# Altium footprint library Package_TO_SOT_THT.PcbLib: 236 footprints (part 7 of 15)
Each footprint in its own frame and in the unit in brackets; x right, y up, seen from the top. Pads: shape width x height; smd on the part's side, far side on the other; paste and mask are expansions set on the pad; w line width, h text height; cw(c..) or ccw(c..) is an arc to the next point about the centre after c.
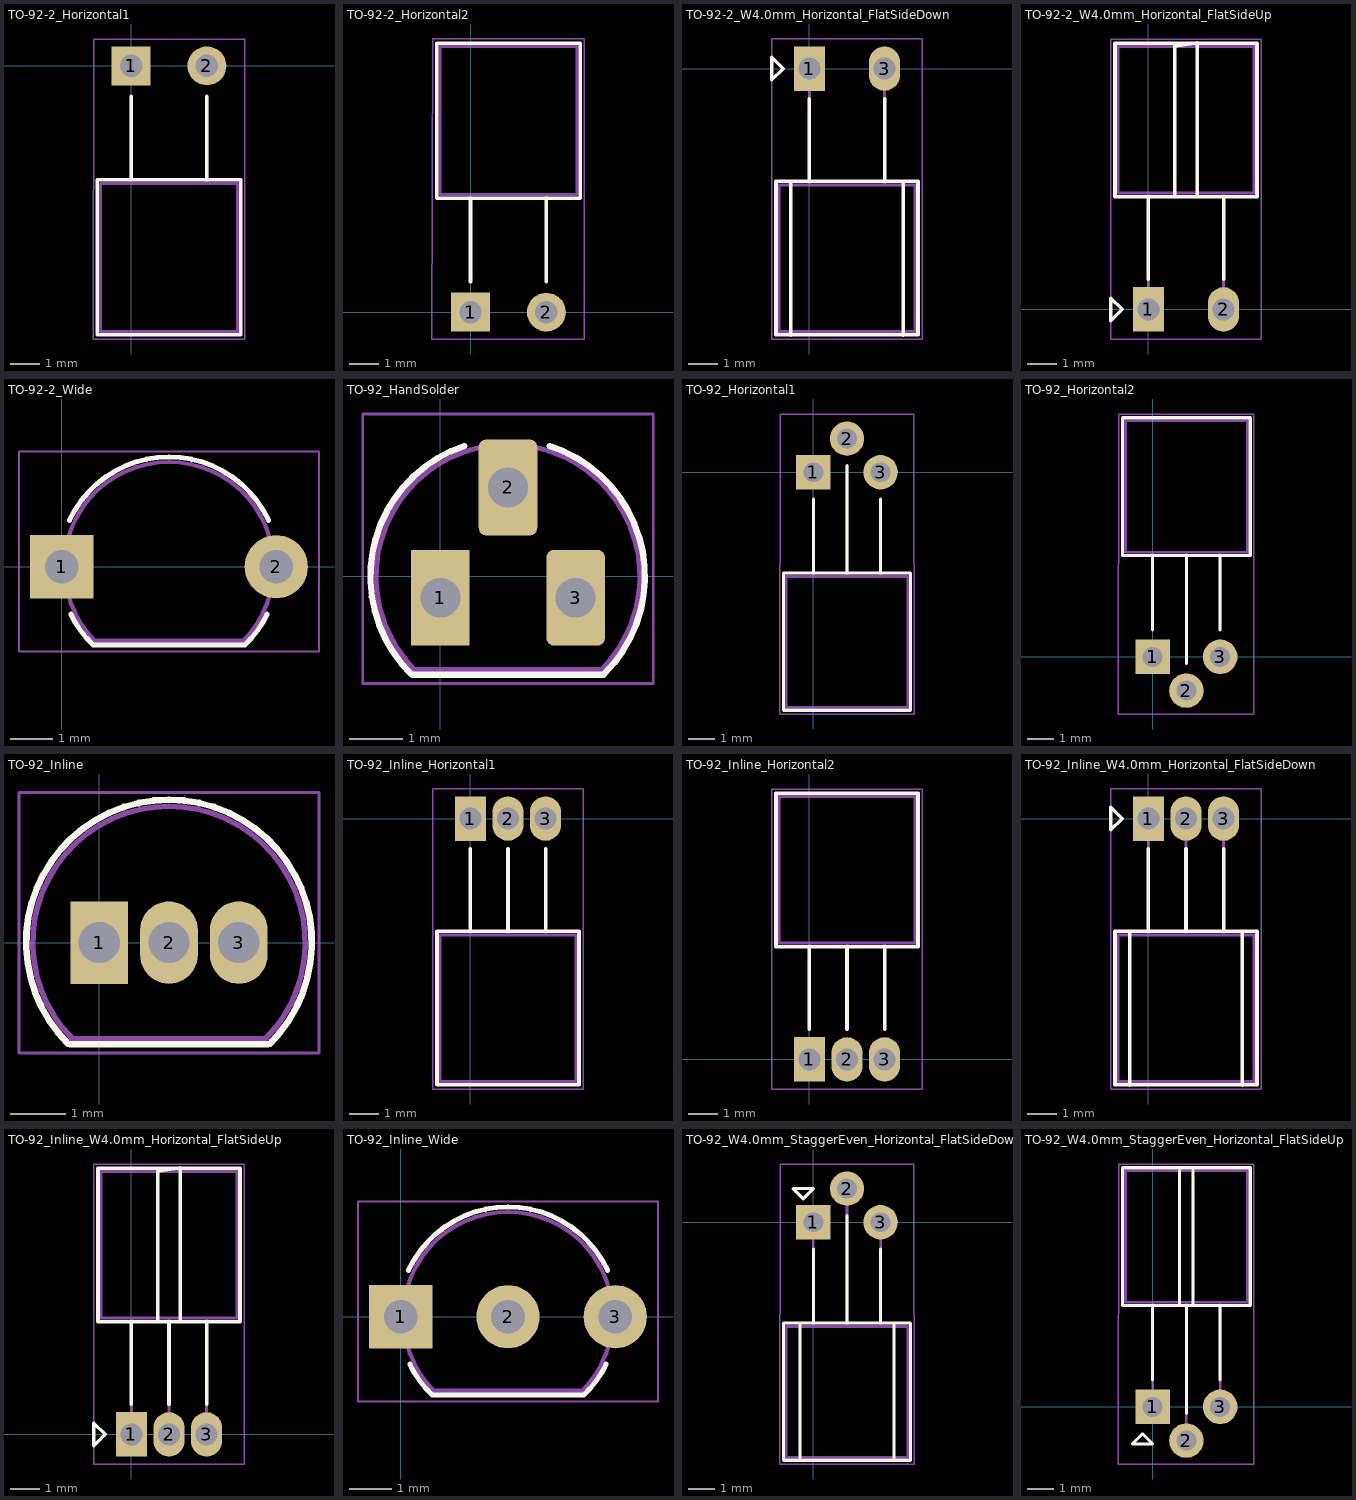
[diagram p6: the footprints below, top view; thin cyan lines are the x and y axes]

## TO-92-2_Horizontal1 [mm]
pads (2):
  rect 1.3x1.3 hole 0.75: 1(0,0)
  round 1.3 hole 0.75: 2(2.54,0)
F.SilkS:
  lines w0.12: 0,-3.81 0,-1.02 ; 2.54,-3.81 2.54,-1.02 ; -1.13,-9 -1.13,-3.81 3.67,-3.81 3.67,-9 -1.13,-9
F.CrtYd:
  lines w0.05: -1.27,-9.14 -1.25,0.9 3.8,0.9 3.81,-9.14 -1.27,-9.14
F.Fab:
  lines w0.1: 0,-3.94 0,-1.02 ; 2.54,-3.94 2.54,-1.02 ; -1.02,-8.89 -1.02,-3.94 3.56,-3.94 3.56,-8.89 -1.02,-8.89
  text "'.Designator'" at -2.777,-7.44 h1

## TO-92-2_Horizontal2 [mm]
pads (2):
  rect 1.3x1.3 hole 0.75: 1(0,0)
  round 1.3 hole 0.75: 2(2.54,0)
F.SilkS:
  lines w0.12: 0,1.02 0,3.81 ; 2.54,1.02 2.54,3.81 ; -1.13,3.81 3.67,3.81 3.67,9 -1.13,9 -1.13,3.81
F.CrtYd:
  lines w0.05: -1.3,-0.9 3.8,-0.9 3.81,9.14 -1.27,9.14 -1.3,-0.9
F.Fab:
  lines w0.1: 0,1.02 0,3.94 ; 2.54,1.02 2.54,3.94 ; -1.02,3.94 3.56,3.94 3.56,8.89 -1.02,8.89 -1.02,3.94
  text "'.Designator'" at -2.777,5.41 h1

## TO-92-2_W4.0mm_Horizontal_FlatSideDown [mm]
pads (2):
  rect 1.05x1.5 hole 0.75: 1(0,0)
  rrect100% 1.05x1.5 hole 0.75: 3(2.54,0)
F.SilkS:
  lines w0.12: -0.635,-9.017 -0.635,-3.81 ; 0,-3.81 0,-1.02 ; 2.54,-3.81 2.54,-1.02 ; 3.175,-9.017 3.175,-3.81 ; -1.27,-0.381 -0.889,0 -1.27,0.381 -1.27,-0.381 ; -1.13,-9 -1.13,-3.81 3.67,-3.81 3.67,-9 -1.13,-9
F.CrtYd:
  lines w0.05: -1.27,-9.14 -1.27,1 3.81,1 3.81,-9.14 -1.27,-9.14
F.Fab:
  lines w0.1: 0,-3.94 0,0 ; 2.54,-3.94 2.54,0 ; -1.02,-8.89 -1.02,-3.94 3.56,-3.94 3.56,-8.89 -1.02,-8.89
  text "'.Designator'" at -2.777,-7.24 h1

## TO-92-2_W4.0mm_Horizontal_FlatSideUp [mm]
pads (2):
  rect 1.05x1.5 hole 0.75: 1(0,0)
  rrect100% 1.05x1.5 hole 0.75: 2(2.54,0)
F.SilkS:
  lines w0.12: 0,1.02 0,3.81 ; 0.889,3.81 0.889,8.89 1.651,9.017 1.651,3.81 ; 2.54,1.02 2.54,3.81 ; -1.27,-0.381 -1.27,0.381 -0.889,0 -1.27,-0.381 ; -1.13,3.81 3.67,3.81 3.67,9 -1.13,9 -1.13,3.81
F.CrtYd:
  lines w0.05: -1.27,-1 3.81,-1 3.81,9.14 -1.27,9.14 -1.27,-1
F.Fab:
  lines w0.1: 0,0 0,3.94 ; 2.54,0 2.54,3.94 ; -1.02,3.94 -1.02,8.89 3.56,8.89 3.56,3.94 -1.02,3.94
  text "'.Designator'" at -2.797,5.56 h1

## TO-92-2_Wide [mm]
pads (2):
  rect 1.5x1.5 hole 0.8: 1(0,0)
  round 1.5 hole 0.8: 2(5.08,0)
F.SilkS:
  lines w0.12: 0.184,1.099 cw(c2.54,0) 2.54,2.6 cw(c2.54,0) 4.896,1.099 ; 0.216,-1.123 ccw(c2.54,0) 0.74,-1.85 4.34,-1.85 ccw(c2.54,0) 4.864,-1.123
F.CrtYd:
  lines w0.05: -1.01,-2.01 -1.01,2.73 6.09,2.73 6.09,-2.01 -1.01,-2.01
F.Fab:
  lines w0.1: 0.786,-1.754 cw(c2.54,0) 2.54,2.48 cw(c2.54,0) 4.294,-1.754 ; 0.8,-1.75 4.3,-1.75
  text "'.Designator'" at -1.507,-0.84 h1

## TO-92_HandSolder [mm]
pads (3):
  rect 1.1x1.8 hole 0.75: 1(0,-0.4)
  rrect25% 1.1x1.8 hole 0.75: 2(1.27,1.67) 3(2.54,-0.4)
F.SilkS:
  lines w0.12: -0.542,-1.842 cw(c1.27,0) 0.45,2.45 ; -0.53,-1.85 3.07,-1.85 ; 2.05,2.45 cw(c1.27,0) 3.078,-1.828
F.CrtYd:
  lines w0.05: -1.46,-2.01 4,-2.01 4,3.05 -1.46,3.05 -1.46,-2.01
F.Fab:
  lines w0.1: -0.5,-1.75 3,-1.75 ; -0.484,-1.754 cw(c1.27,0) 1.27,2.48 cw(c1.27,0) 3.024,-1.754
  text "'.Designator'" at -2.777,-0.84 h1

## TO-92_Horizontal1 [mm]
pads (3):
  rect 1.3x1.3 hole 0.75: 1(0,0)
  round 1.3 hole 0.75: 2(1.27,1.27) 3(2.54,0)
F.SilkS:
  lines w0.12: 0,-3.81 0,-1.02 ; 1.27,-3.81 1.27,0.25 ; 2.54,-3.81 2.54,-1.02 ; -1.13,-9 3.67,-9 3.67,-3.81 -1.13,-3.81 -1.13,-9
F.CrtYd:
  lines w0.05: -1.27,-9.14 -1.25,2.2 3.8,2.2 3.81,-9.14 -1.27,-9.14
F.Fab:
  lines w0.1: 0,-3.94 0,-1.02 ; 1.27,-3.94 1.27,0.25 ; 2.54,-3.94 2.54,-1.02 ; -1.02,-8.89 -1.02,-3.94 3.56,-3.94 3.56,-8.89 -1.02,-8.89
  text "'.Designator'" at -2.777,-7.44 h1

## TO-92_Horizontal2 [mm]
pads (3):
  rect 1.3x1.3 hole 0.75: 1(0,0)
  round 1.3 hole 0.75: 2(1.27,-1.27) 3(2.54,0)
F.SilkS:
  lines w0.12: 0,1.02 0,3.81 ; 1.27,-0.25 1.27,3.81 ; 2.54,1.02 2.54,3.81 ; -1.13,3.81 3.67,3.81 3.67,9 -1.13,9 -1.13,3.81
F.CrtYd:
  lines w0.05: -1.3,-2.15 -1.27,9.14 3.81,9.14 3.8,-2.15 -1.3,-2.15
F.Fab:
  lines w0.1: 0,1.02 0,3.94 ; 1.27,-0.25 1.27,3.94 ; 2.54,1.02 2.54,3.94 ; -1.02,3.94 -1.02,8.89 3.56,8.89 3.56,3.94 -1.02,3.94
  text "'.Designator'" at -2.777,5.41 h1

## TO-92_Inline [mm]
pads (3):
  rect 1.05x1.5 hole 0.75: 1(0,0)
  rrect100% 1.05x1.5 hole 0.75: 2(1.27,0) 3(2.54,0)
F.SilkS:
  lines w0.12: -0.568,-1.838 cw(c1.27,0) 1.27,2.6 cw(c1.27,0) 3.108,-1.838 ; -0.53,-1.85 3.07,-1.85
F.CrtYd:
  lines w0.05: -1.46,-2.01 4,-2.01 4,2.73 -1.46,2.73 -1.46,-2.01
F.Fab:
  lines w0.1: -0.5,-1.75 3,-1.75 ; -0.484,-1.754 cw(c1.27,0) 1.27,2.48 cw(c1.27,0) 3.024,-1.754
  text "'.Designator'" at -2.777,-0.84 h1

## TO-92_Inline_Horizontal1 [mm]
pads (3):
  rect 1.05x1.5 hole 0.75: 1(0,0)
  rrect100% 1.05x1.5 hole 0.75: 2(1.27,0) 3(2.54,0)
F.SilkS:
  lines w0.12: 0,-3.81 0,-1.02 ; 1.27,-3.81 1.27,-1.02 ; 2.54,-3.81 2.54,-1.02 ; -1.13,-9 -1.13,-3.81 3.67,-3.81 3.67,-9 -1.13,-9
F.CrtYd:
  lines w0.05: -1.27,-9.14 3.81,-9.14 3.81,1 -1.27,1 -1.27,-9.14
F.Fab:
  lines w0.1: 0,-3.94 0,-1.02 ; 1.27,-3.94 1.27,-1.02 ; 2.54,-3.94 2.54,-1.02 ; -1.02,-8.89 -1.02,-3.94 3.56,-3.94 3.56,-8.89 -1.02,-8.89
  text "'.Designator'" at -2.777,-7.24 h1

## TO-92_Inline_Horizontal2 [mm]
pads (3):
  rect 1.05x1.5 hole 0.75: 1(0,0)
  rrect100% 1.05x1.5 hole 0.75: 2(1.27,0) 3(2.54,0)
F.SilkS:
  lines w0.12: 0,1.02 0,3.81 ; 1.27,1.02 1.27,3.81 ; 2.54,1.02 2.54,3.81 ; -1.13,3.81 3.67,3.81 3.67,9 -1.13,9 -1.13,3.81
F.CrtYd:
  lines w0.05: -1.27,-1 3.81,-1 3.81,9.14 -1.27,9.14 -1.27,-1
F.Fab:
  lines w0.1: 0,1.02 0,3.94 ; 1.27,1.02 1.27,3.94 ; 2.54,1.02 2.54,3.94 ; -1.02,3.94 -1.02,8.89 3.56,8.89 3.56,3.94 -1.02,3.94
  text "'.Designator'" at -2.797,5.56 h1

## TO-92_Inline_W4.0mm_Horizontal_FlatSideDown [mm]
pads (3):
  rect 1.05x1.5 hole 0.75: 1(0,0)
  rrect100% 1.05x1.5 hole 0.75: 2(1.27,0) 3(2.54,0)
F.SilkS:
  lines w0.12: -0.635,-9.017 -0.635,-3.81 ; 0,-3.81 0,-1.02 ; 1.27,-3.81 1.27,-1.02 ; 2.54,-3.81 2.54,-1.02 ; 3.175,-9.017 3.175,-3.81 ; -1.27,-0.381 -1.27,0.381 -0.889,0 -1.27,-0.381 ; -1.13,-9 -1.13,-3.81 3.67,-3.81 3.67,-9 -1.13,-9
F.CrtYd:
  lines w0.05: -1.27,-9.14 -1.27,1 3.81,1 3.81,-9.14 -1.27,-9.14
F.Fab:
  lines w0.1: 0,-3.94 0,0 ; 1.27,-3.94 1.27,0 ; 2.54,-3.94 2.54,0 ; -1.02,-8.89 -1.02,-3.94 3.56,-3.94 3.56,-8.89 -1.02,-8.89
  text "'.Designator'" at -2.777,-7.24 h1

## TO-92_Inline_W4.0mm_Horizontal_FlatSideUp [mm]
pads (3):
  rect 1.05x1.5 hole 0.75: 1(0,0)
  rrect100% 1.05x1.5 hole 0.75: 2(1.27,0) 3(2.54,0)
F.SilkS:
  lines w0.12: 0,1.02 0,3.81 ; 0.889,3.81 0.889,8.89 1.651,9.017 1.651,3.81 ; 1.27,1.02 1.27,3.81 ; 2.54,1.02 2.54,3.81 ; -1.27,-0.381 -0.889,0 -1.27,0.381 -1.27,-0.381 ; -1.13,3.81 -1.13,9 3.67,9 3.67,3.81 -1.13,3.81
F.CrtYd:
  lines w0.05: -1.27,-1 3.81,-1 3.81,9.14 -1.27,9.14 -1.27,-1
F.Fab:
  lines w0.1: 0,0 0,3.94 ; 1.27,0 1.27,3.94 ; 2.54,0 2.54,3.94 ; -1.02,3.94 -1.02,8.89 3.56,8.89 3.56,3.94 -1.02,3.94
  text "'.Designator'" at -2.797,5.56 h1

## TO-92_Inline_Wide [mm]
pads (3):
  rect 1.5x1.5 hole 0.8: 1(0,0)
  round 1.5 hole 0.8: 2(2.54,0) 3(5.08,0)
F.SilkS:
  lines w0.12: 0.184,1.099 cw(c2.54,0) 2.54,2.6 cw(c2.54,0) 4.896,1.099 ; 0.216,-1.123 ccw(c2.54,0) 0.74,-1.85 4.34,-1.85 ccw(c2.54,0) 4.864,-1.123
F.CrtYd:
  lines w0.05: -1.01,-2.01 -1.01,2.73 6.09,2.73 6.09,-2.01 -1.01,-2.01
F.Fab:
  lines w0.1: 0.786,-1.754 cw(c2.54,0) 2.54,2.48 cw(c2.54,0) 4.294,-1.754 ; 0.8,-1.75 4.3,-1.75
  text "'.Designator'" at -1.507,-0.84 h1

## TO-92_W4.0mm_StaggerEven_Horizontal_FlatSideDown [mm]
pads (3):
  rect 1.3x1.3 hole 0.75: 1(0,0)
  round 1.3 hole 0.75: 2(1.27,1.27) 3(2.54,0)
F.SilkS:
  lines w0.12: -0.508,-8.89 -0.508,-3.81 ; 0,-3.81 0,-1.02 ; 1.27,-3.81 1.27,0.25 ; 2.54,-3.81 2.54,-1.02 ; 3.048,-8.89 3.048,-3.81 ; -1.13,-9 3.67,-9 3.67,-3.81 -1.13,-3.81 -1.13,-9 ; -0.762,1.27 0,1.27 -0.381,0.889 -0.762,1.27
F.CrtYd:
  lines w0.05: -1.27,-9.14 -1.25,2.2 3.8,2.2 3.81,-9.14 -1.27,-9.14
F.Fab:
  lines w0.1: 0,-3.94 0,0 ; 1.27,-3.94 1.27,1.27 ; 2.54,-3.94 2.54,0 ; -1.02,-8.89 3.56,-8.89 3.56,-3.94 -1.02,-3.94 -1.02,-8.89
  text "'.Designator'" at -2.777,-7.44 h1

## TO-92_W4.0mm_StaggerEven_Horizontal_FlatSideUp [mm]
pads (3):
  rect 1.3x1.3 hole 0.75: 1(0,0)
  round 1.3 hole 0.75: 2(1.27,-1.27) 3(2.54,0)
F.SilkS:
  lines w0.12: 0,1.02 0,3.81 ; 1.016,3.81 1.016,8.89 ; 1.27,-0.25 1.27,3.81 ; 1.524,3.81 1.524,8.89 ; 2.54,1.02 2.54,3.81 ; -1.13,3.81 3.67,3.81 3.67,9 -1.13,9 -1.13,3.81 ; -0.762,-1.397 -0.381,-1.016 0,-1.397 -0.762,-1.397
F.CrtYd:
  lines w0.05: -1.3,-2.15 -1.27,9.14 3.81,9.14 3.8,-2.15 -1.3,-2.15
F.Fab:
  lines w0.1: 0,0 0,3.94 ; 1.27,-1.27 1.27,3.94 ; 2.54,0 2.54,3.94 ; -1.02,3.94 3.56,3.94 3.56,8.89 -1.02,8.89 -1.02,3.94
  text "'.Designator'" at -2.777,5.41 h1